# EAGLE library part R/2R-6G (library resistor-sil)
R/2R Ladder 6 Murata RGSD12L
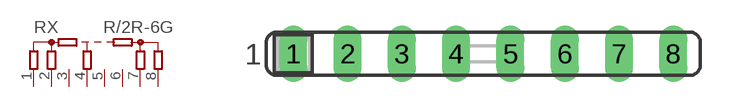
[diagram p42: symbol with the pads of SIL8; footprint SIL8]

Designator prefix RX

## R/2R-6G  [SIL8]
1  IN  pas
2  B6  pas
3  B5  pas
4  B4  pas
5  B3  pas
6  B2  pas
7  B1  pas
8  OUT  pas

## Footprint SIL8 (pad centres in mm)
Single In Line
drill 0.813 long: 1 -8.89,0; 2 -6.35,0; 3 -3.81,0; 4 -1.27,0; 5 1.27,0; 6 3.81,0; 7 6.35,0; 8 8.89,0